# Altium footprint library PCB - CONNECTOR - SAMTEC FTS-105-XX-YY-DV.PCBLIB: 1 footprints
Each footprint in its own frame and in the unit in brackets; x right, y up, seen from the top. Pads: shape width x height; smd on the part's side, far side on the other; paste and mask are expansions set on the pad; w line width, h text height; cw(c..) or ccw(c..) is an arc to the next point about the centre after c.
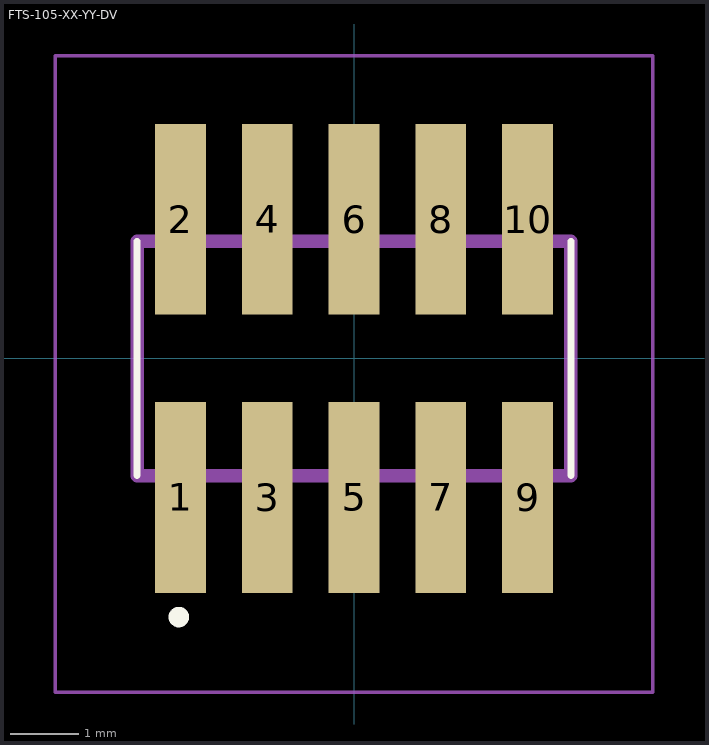
[diagram p0: the footprint, top view; thin cyan lines are the x and y axes]

## FTS-105-XX-YY-DV [mm]
pads (10):
  rect 0.74x2.79 smd: 1(-2.54,-2.035) 2(-2.54,2.035) 3(-1.27,-2.035) 4(-1.27,2.035) 5(0,-2.035) 6(0,2.035) 7(1.27,-2.035) 8(1.27,2.035) 9(2.54,-2.035) 10(2.54,2.035)
Top Overlay:
  circle w0.2: c-2.565,-3.785 r0.05
  lines w0.1: -3.175,-1.715 -3.175,1.715 ; 3.175,-1.715 3.175,1.715
Top Assembly:
  lines w0.2: -3.175,-1.715 3.175,-1.715 3.175,1.715 -3.175,1.715 -3.175,-1.715
Top Courtyard:
  lines w0.05: -4.375,-4.885 4.375,-4.885 4.375,4.43 -4.375,4.43 -4.375,-4.885
Top Designator:
  text ".Designator" at -4.191,7.62 h1
Top Value (Mech13):
  text ".Comment" at -4.191,6.477 h1
3D body "FTS-105-01-L-DV.stp": height 4.31, standoff -0.01, extent -3,-2.921 3.35,2.921